# EAGLE library part LT1078CN8PBF (library parts)
Op Amp
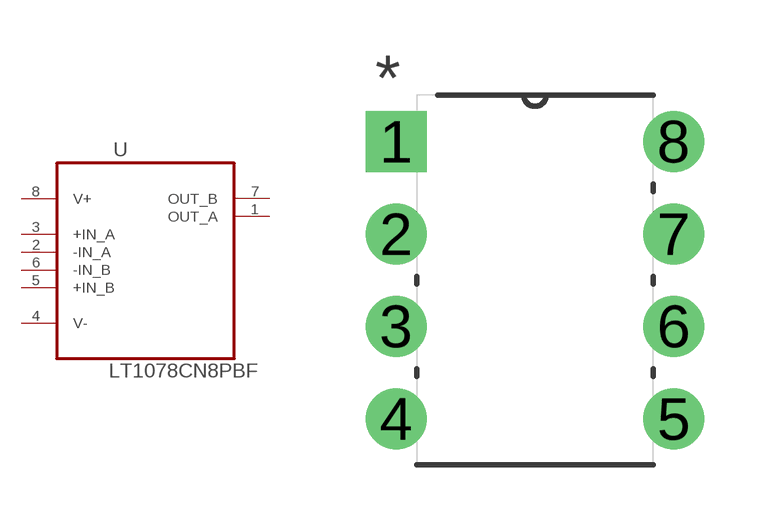
[diagram p0: symbol with the pads of DIP254P762X393-8; footprint DIP254P762X393-8]

Designator prefix U

## LT1078CN8PBF (MPN: LT1078CN8#PBF; OC_FARNELL: 9559680; OC_NEWARK: 57M1404; PACKAGE: PDIP; SUPPLIER: LINEAR TECHNOLOGY)  [DIP254P762X393-8]
1  OUT_A  out
2  -IN_A  in
3  +IN_A  in
4  V-  pwr
5  +IN_B  in
6  -IN_B  in
7  OUT_B  out
8  V+  pwr

## Footprint DIP254P762X393-8 (pad centres in mm)
drill 1.118 square: 1 -7.62,7.62
drill 1.118: 2 -7.62,5.08; 3 -7.62,2.54; 4 -7.62,0; 5 0,0; 6 0,2.54; 7 0,5.08; 8 0,7.62